# Altium footprint library APF控制.pcblib: 35 footprints (part 1 of 3)
Each footprint in its own frame and in the unit in brackets; x right, y up, seen from the top. Pads: shape width x height; smd on the part's side, far side on the other; paste and mask are expansions set on the pad; w line width, h text height; cw(c..) or ccw(c..) is an arc to the next point about the centre after c.
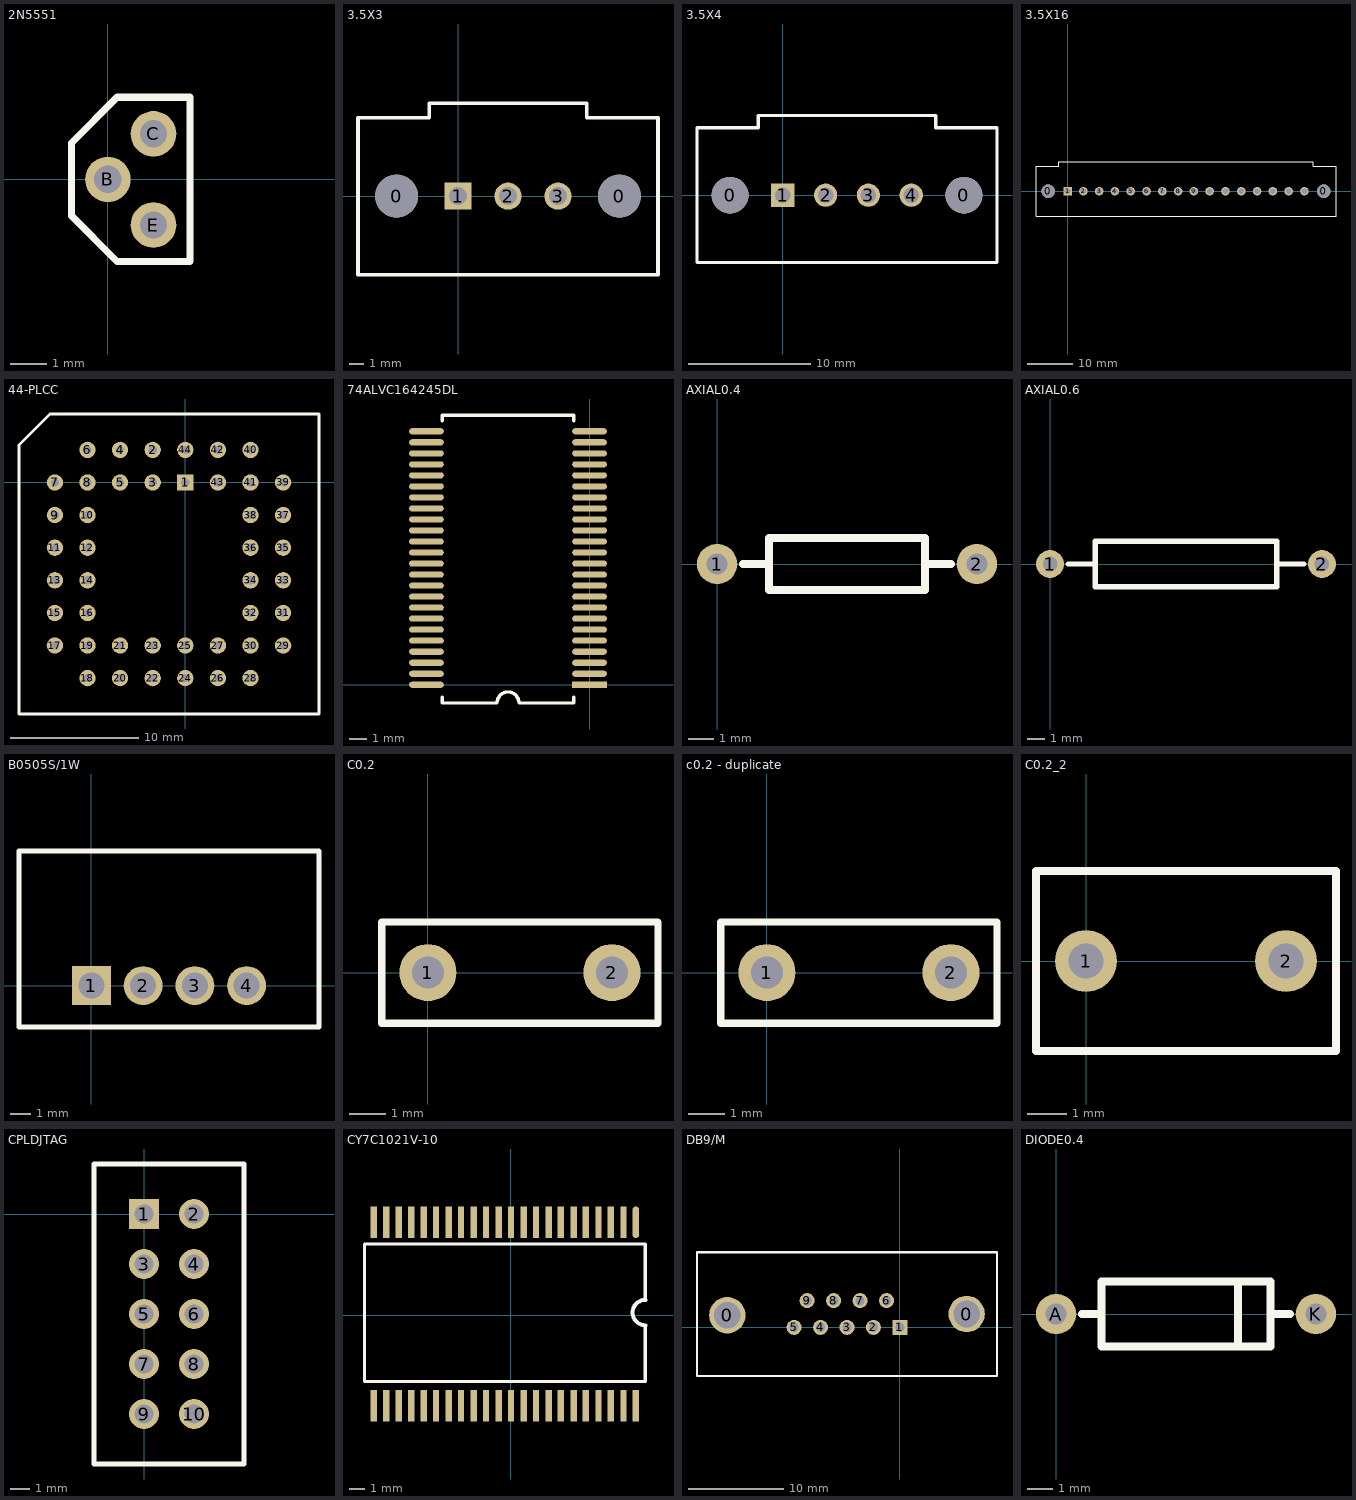
[diagram p0: the footprints below, top view; thin cyan lines are the x and y axes]

## 2N5551 [mil]
pads (3):
  round 50 hole 30: B(0,0) C(50,50) E(50,-50)
TopOverlay:
  lines w8: -40,-40 -40,40 10,90 90,90 90,-90 10,-90 -40,-40

## 3.5X3 [mm]
pads (5):
  round 3 hole 3: 0(-4.3,0) 0(11.3,0)
  rect 1.905x1.905 hole 1.27: 1(0,0)
  round 1.905 hole 1.27: 2(3.5,0) 3(7,0)
TopOverlay:
  lines w0.254: -7,-5.5 14,-5.5 14,5.5 9,5.5 9,6.5 -2,6.5 -2,5.5 -7,5.5 -7,-5.5

## 3.5X4 [mm]
pads (6):
  round 3 hole 3: 0(-4.3,0) 0(14.8,0)
  rect 1.905x1.905 hole 1.27: 1(0,0)
  round 1.905 hole 1.27: 2(3.5,0) 3(7,0) 4(10.5,0)
TopOverlay:
  lines w0.254: -7,-5.5 -7,5.5 -2,5.5 -2,6.5 12.5,6.5 12.5,5.5 17.5,5.5 17.5,-5.5 -7,-5.5

## 3.5X16 [mm]
pads (18):
  round 3 hole 3: 0(-4.3,0) 0(56.8,0)
  rect 1.905x1.905 hole 1.27: 1(0,0)
  round 1.905 hole 1.27: 2(3.5,0) 3(7,0) 4(10.5,0) 5(14,0) 6(17.5,0) 7(21,0) 8(24.5,0) 9(28,0) 10(31.5,0) 11(35,0) 12(38.5,0) 13(42,0) 14(45.5,0) 15(49,0) 16(52.5,0)
TopOverlay:
  lines w0.254: -7,-5.5 59.5,-5.5 59.5,5.5 54.5,5.5 54.5,6.5 -2,6.5 -2,5.5 -7,5.5 -7,-5.5

## 44-PLCC [mil]
pads (44):
  rect 50x50 hole 25: 1(0,0)
  round 50 hole 25: 2(-100,100) 3(-100,0) 4(-200,100) 5(-200,0) 6(-300,100) 7(-400,0) 8(-300,0) 9(-400,-100) 10(-300,-100) 11(-400,-200) 12(-300,-200) 13(-400,-300) 14(-300,-300) 15(-400,-400) 16(-300,-400) 17(-400,-500) 18(-300,-600) 19(-300,-500) 20(-200,-600) 21(-200,-500) 22(-100,-600) 23(-100,-500) 24(0,-600) 25(0,-500) 26(100,-600) 27(100,-500) 28(200,-600) 29(300,-500) 30(200,-500) 31(300,-400) 32(200,-400) 33(300,-300) 34(200,-300) 35(300,-200) 36(200,-200) 37(300,-100) 38(200,-100) 39(300,0) 40(200,100) 41(200,0) 42(100,100) 43(100,0) 44(0,100)
TopOverlay:
  lines w10: -510,50 -510,115 -415,210 -280,210 ; -510,80 -510,-710 410,-710 410,210 ; -380,210 410,210 ; 0,210 410,210

## 74ALVC164245DL [mm]
pads (48):
  rect 2x0.36 smd: 1(0,0)
  oval 2x0.36 smd: 2(0,0.635) 3(0,1.27) 4(0,1.905) 5(0,2.54) 6(0,3.175) 7(0,3.81) 8(0,4.445) 9(0,5.08) 10(0,5.715) 11(0,6.35) 12(0,6.985) 13(0,7.62) 14(0,8.255) 15(0,8.89) 16(0,9.525) 17(0,10.16) 18(0,10.795) 19(0,11.43) 20(0,12.065) 21(0,12.7) 22(0,13.335) 23(0,13.97) 24(0,14.605) 25(-9.4,14.605) 26(-9.4,13.97) 27(-9.4,13.335) 28(-9.4,12.7) 29(-9.4,12.065) 30(-9.4,11.43) 31(-9.4,10.795) 32(-9.4,10.16) 33(-9.4,9.525) 34(-9.4,8.89) 35(-9.4,8.255) 36(-9.4,7.62) 37(-9.4,6.985) 38(-9.4,6.35) 39(-9.4,5.715) 40(-9.4,5.08) 41(-9.4,4.445) 42(-9.4,3.81) 43(-9.4,3.175) 44(-9.4,2.54) 45(-9.4,1.905) 46(-9.4,1.27) 47(-9.4,0.635) 48(-9.4,0)
TopOverlay:
  lines w0.2: -8.5,-0.725 -8.5,-1.055 -5.335,-1.055 cw(c-4.7,-1.055) -4.065,-1.055 -0.9,-1.055 -0.9,-0.725 ; -8.5,15.215 -8.5,15.545 -0.9,15.545 -0.9,15.215

## AXIAL0.4 [mil]
pads (2):
  round 62 hole 32: 1(0,0) 2(400,0)
TopOverlay:
  lines w12: 40,0 80,0 ; 320,0 360,0 ; 80,-40 320,-40 320,40 80,40 80,-40

## AXIAL0.6 [mil]
pads (2):
  round 62 hole 32: 1(0,0) 2(600,0)
TopOverlay:
  lines w12: 40,0 100,0 ; 500,0 560,0 ; 100,-50 500,-50 500,50 100,50 100,-50

## B0505S/1W [mil]
pads (4):
  rect 75x75 hole 50: 1(0,0)
  round 75 hole 50: 2(100,0) 3(200,0) 4(300,0)
TopOverlay:
  lines w10: -140,-80 440,-80 440,260 -140,260 -140,-80

## C0.2 [mil]
pads (2):
  round 62 hole 35: 1(0,0) 2(200,0)
TopOverlay:
  lines w8: -50,-55 -50,55 250,55 250,-55 -50,-55

## c0.2 - duplicate [mil]
pads (2):
  round 62 hole 35: 1(0,0) 2(200,0)
TopOverlay:
  lines w8: -50,-55 -50,55 250,55 250,-55 -50,-55

## C0.2_2 [mil]
pads (2):
  round 62 hole 35: 1(0,0) 2(200,0)
TopOverlay:
  lines w8: -50,-90 250,-90 250,90 -50,90 -50,-90

## CPLDJTAG [mil]
pads (10):
  rect 60x60 hole 38: 1(0,0)
  round 60 hole 38: 2(100,0) 3(0,-100) 4(100,-100) 5(0,-200) 6(100,-200) 7(0,-300) 8(100,-300) 9(0,-400) 10(100,-400)
TopOverlay:
  lines w10: -100,-500 200,-500 200,100 -100,100 -100,-500

## CY7C1021V-10 [mil]
pads (44):
  oval 16x80 smd: 1(315,235)
  rect 16x80 smd: 2(284,235) 3(252,235) 4(221,235) 5(189,235) 6(158,235) 7(126,235) 8(95,235) 9(63,235) 10(32,235) 11(0,235) 12(-31,235) 13(-63,235) 14(-94,235) 15(-126,235) 16(-157,235) 17(-189,235) 18(-220,235) 19(-252,235) 20(-283,235) 21(-315,235) 22(-346,235) 23(-346,-228) 24(-315,-228) 25(-283,-228) 26(-252,-228) 27(-220,-228) 28(-189,-228) 29(-157,-228) 30(-126,-228) 31(-94,-228) 32(-63,-228) 33(-31,-228) 34(0,-228) 35(32,-228) 36(63,-228) 37(95,-228) 38(126,-228) 39(158,-228) 40(189,-228) 41(221,-228) 42(252,-228) 43(284,-228) 44(315,-228)
TopOverlay:
  lines w8: 339,-25 339,-167 -370,-167 -370,180 339,180 339,38
  lines w10: 339,-25 cw(c339,7) 339,39

## DB9/M [mil]
pads (11):
  round 150 hole 110: 0(-711,50) 0(275,55)
  rect 62x62 hole 38: 1(0,0)
  round 62 hole 38: 2(-109,0) 3(-218,0) 4(-327,0) 5(-436,0) 6(-55,110) 7(-164,110) 8(-273,110) 9(-382,110)
TopOverlay:
  lines w8: -836,310 -836,-200 400,-200
  lines w10: -836,310 400,310 400,-200

## DIODE0.4 [mil]
pads (2):
  round 62 hole 32: A(0,0) K(400,0)
TopOverlay:
  lines w12: 40,0 70,0 ; 280,-50 280,50 ; 330,0 360,0 ; 70,-50 330,-50 330,50 70,50 70,-50